# EAGLE library part AMIS-42700 (library amis-42700)
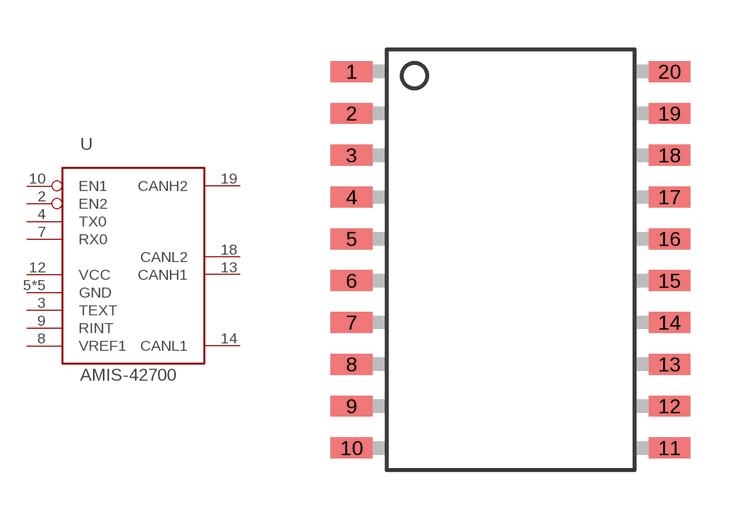
[diagram p0: symbol with the pads of SOIC20; footprint SOIC20]

Designator prefix -

## AMIS-42700  [SOIC20]
2  EN2  in
3  TEXT  in
4  TX0  in
5  GND  in
6  GND  in
7  RX0  in
8  VREF1  in
9  RINT  in
10  EN1  in
12  VCC  pwr
13  CANH1  out
14  CANL1  out
15  GND  in
16  GND  in
17  GND  in
18  CANL2  out
19  CANH2  out

## Footprint SOIC20 (pad centres in mm)
smd 1.27 x 0.635: 1 -4.826,5.715; 2 -4.826,4.445; 3 -4.826,3.175; 4 -4.826,1.905; 5 -4.826,0.635; 6 -4.826,-0.635; 7 -4.826,-1.905; 8 -4.826,-3.175; 9 -4.826,-4.445; 10 -4.826,-5.715; 11 4.826,-5.715; 12 4.826,-4.445; 13 4.826,-3.175; 14 4.826,-1.905; 15 4.826,-0.635; 16 4.826,0.635; 17 4.826,1.905; 18 4.826,3.175; 19 4.826,4.445; 20 4.826,5.715